# Altium schematic symbol library SamacSys.SchLib: 29 symbols
Pins are listed as number, name and electrical type; pins without a type are passive.

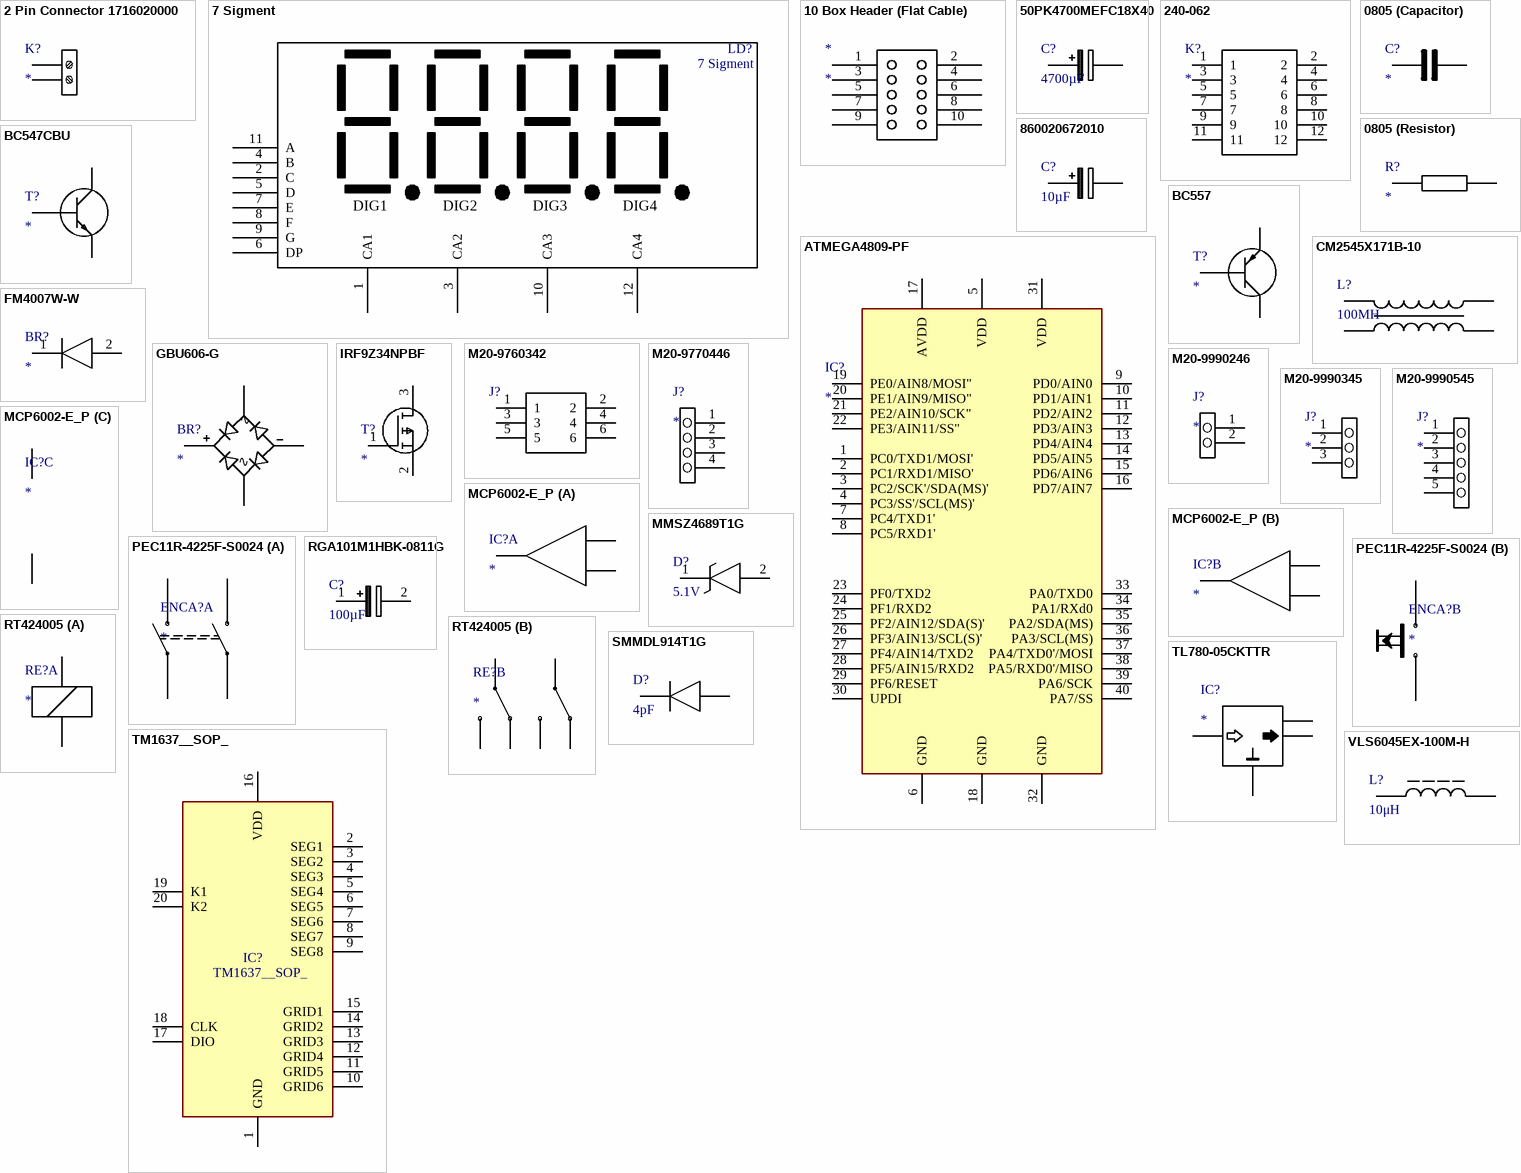
[diagram p0: symbols 2 Pin Connector 1716020000 to VLS6045EX-100M-H]

## 2 Pin Connector 1716020000
designator K?
Connector; Manufacturer_Name: Weidmuller; Manufacturer_Part_Number: 1716020000; Datasheet Link: https://catalog.weidmueller.com/catalog/Start.do?ObjectID=1716020000&_ga=2.21797499.1716783809.1613378202-511725545.1613378202
footprint 1716020000
pins: 1, 2

## 7 Sigment
designator LD?
footprint 7-Sigment
pins: 1 CA1, 2 C, 3 CA2, 4 B, 5 D, 6 DP, 7 E, 8 F, 9 G, 10 CA3, 11 A, 12 CA4
text: DIG1; DIG2; DIG3; DIG4

## 10 Box Header (Flat Cable)
designator *
footprint 10BoxHeader
pins: 1, 2, 3, 4, 5, 6, 7, 8, 9, 10

## 50PK4700MEFC18X40
designator C?, comment 4700µF
Capacitor Polarised; Manufacturer_Name: Rubycon; Manufacturer_Part_Number: 50PK4700MEFC18X40; Datasheet Link: https://componentsearchengine.com//50PK4700MEFC18X40.pdf; Height: 41.5mm; Mouser2 Part Number: 232-50PK4700MEFC18X4; Mouser2 Price/Stock: https://www.mouser.com/Search/Refine.aspx?Keyword=232-50PK4700MEFC18X4
footprint CAPPRD750W80D1850H4150
pins: 1 +, 2 -

## 240-062
designator K?
Connector 12-PIN; Manufacturer_Name: Digilent; Manufacturer_Part_Number: 240-062; Description: Headers & Wire Housings 2x6 Pin Header; Datasheet Link: https://digilent.com/shop/2x6-pin-header-5-pack/; Height: 9.09mm
footprint HDRV12W64P254_2X6_1524X508X909P
pins: 1, 2, 3, 4, 5, 6, 7, 8, 9, 10, 11, 12

## 0805 (Capacitor)
designator C?
Capacitor; Manufacturer_Name: Kemet; Manufacturer_Part_Number: C0805C391G3GACTU; Datasheet Link: https://content.kemet.com/datasheets/KEM_C1003_C0G_SMD.pdf; Height: 1.1mm
footprint C0805
pins: 1 +, 2 -

## 0805 (Resistor)
designator R?
Resistor; Manufacturer_Name: Kemet; Manufacturer_Part_Number: C0805C391G3GACTU; Datasheet Link: https://content.kemet.com/datasheets/KEM_C1003_C0G_SMD.pdf; Height: 1.1mm
footprint C0805
pins: 1, 2

## 860020672010
designator C?, comment 10µF
Capacitor Polarised; Manufacturer_Name: Wurth Elektronik; Manufacturer_Part_Number: 860020672010; Datasheet Link: https://componentsearchengine.com//860020672010.pdf; Height: 12.5mm; Mouser2 Part Number: 710-860020672010; Mouser2 Price/Stock: https://www.mouser.com/Search/Refine.aspx?Keyword=710-860020672010
footprint CAPPRD200W52D500H1250
pins: 1 +, 2 -

## ATMEGA4809-PF
designator IC?
Integrated Circuit; Manufacturer_Name: Microchip; Manufacturer_Part_Number: ATMEGA4809-PF; Datasheet Link: https://componentsearchengine.com//ATMEGA4809-PF.pdf; Height: 6.35mm; Mouser2 Part Number: 556-ATMEGA4809-PF; Mouser2 Price/Stock: https://www.mouser.com/Search/Refine.aspx?Keyword=556-ATMEGA4809-PF
footprint DIP1543W58P254L5175H635Q40N
pins: 1 PC0/TXD1/MOSI', 2 PC1/RXD1/MISO', 3 PC2/SCK'/SDA(MS)', 4 PC3/SS'/SCL(MS)', 5 VDD, 6 GND, 7 PC4/TXD1', 8 PC5/RXD1', 9 PD0/AIN0, 10 PD1/AIN1, 11 PD2/AIN2, 12 PD3/AIN3, 13 PD4/AIN4, 14 PD5/AIN5, 15 PD6/AIN6, 16 PD7/AIN7, 17 AVDD, 18 GND, 19 PE0/AIN8/MOSI", 20 PE1/AIN9/MISO", 21 PE2/AIN10/SCK", 22 PE3/AIN11/SS", 23 PF0/TXD2, 24 PF1/RXD2, 25 PF2/AIN12/SDA(S)', 26 PF3/AIN13/SCL(S)', 27 PF4/AIN14/TXD2, 28 PF5/AIN15/RXD2, 29 PF6/RESET, 30 UPDI, 31 VDD, 32 GND, 33 PA0/TXD0, 34 PA1/RXd0, 35 PA2/SDA(MS), 36 PA3/SCL(MS), 37 PA4/TXD0'/MOSI, 38 PA5/RXD0'/MISO, 39 PA6/SCK, 40 PA7/SS

## BC547CBU
designator T?
Transistor BJT NPN; Manufacturer_Name: ON Semiconductor; Manufacturer_Part_Number: BC547CBU; Datasheet Link: https://www.onsemi.com/pdf/datasheet/bc550-d.pdf; Height: 5.33mm
footprint BC547CBU
pins: 1 C, 2 B, 3 E

## BC557
designator T?
Transistor BJT NPN; Manufacturer_Name: ON Semiconductor; Manufacturer_Part_Number: BC547CBU; Datasheet Link: https://www.onsemi.com/pdf/datasheet/bc550-d.pdf; Height: 5.33mm
footprint BC547CBU
pins: 1 C, 2 B, 3 E

## CM2545X171B-10
designator L?, comment 100MH
Transformer; Manufacturer_Name: Laird Technologies; Manufacturer_Part_Number: CM2545X171B-10; Datasheet Link: https://datasheet.datasheetarchive.com/originals/dk/DKDS-7/122753.pdf; Height: 9.5mm
footprint CM2545X171B10
pins: 1 PRI+, 2 SEC+, 3 SEC-, 4 PRI-

## FM4007W-W
designator BR?
Bridge Rectifier; Manufacturer_Name: Rectron; Manufacturer_Part_Number: FM4007W-W; Datasheet Link: https://componentsearchengine.com//FM4007W-W.pdf; Height: 2.31mm; Mouser2 Part Number: 583-FM4007W-W; Mouser2 Price/Stock: https://www.mouser.com/Search/Refine.aspx?Keyword=583-FM4007W-W
footprint DIOM5025X231N
pins: 1 K, 2 A

## GBU606-G
designator BR?
Bridge Rectifier; Manufacturer_Name: Comchip Technology; Manufacturer_Part_Number: GBU606-G; Datasheet Link: https://www.comchiptech.com/product.php?id=2217; Height: 20.95mm
footprint GBU606G
pins: 1 +, 2 ~_1, 3 ~_2, 4 -
text: ∿

## IRF9Z34NPBF
designator T?
MOSFET (P-Channel); Manufacturer_Name: Infineon; Manufacturer_Part_Number: IRF9Z34NPBF; Datasheet Link: https://componentsearchengine.com//IRF9Z34NPBF.pdf; Height: 4.69mm; Mouser2 Part Number: 942-IRF9Z34NPBF; Mouser2 Price/Stock: https://www.mouser.com/Search/Refine.aspx?Keyword=942-IRF9Z34NPBF
footprint TO254P469X1042X1967-3P
pins: 1 G, 2 S, 3 D

## M20-9760342
designator J?
Connector 6-PIN; Manufacturer_Name: Harwin; Manufacturer_Part_Number: M20-9760342; Datasheet Link: https://cdn.harwin.com/pdfs/M20-976.pdf; Height: 8.3mm
footprint HDRV6W66P254_2X3_762X508X830P
pins: 1, 2, 3, 4, 5, 6

## M20-9770446
designator J?
Connector 4-PIN; Manufacturer_Name: Harwin; Manufacturer_Part_Number: M20-9770446; Datasheet Link: https://componentsearchengine.com//M20-9770446.pdf; Height: 8.34mm; Mouser2 Part Number: 855-M20-9770446; Mouser2 Price/Stock: https://www.mouser.com/Search/Refine.aspx?Keyword=855-M20-9770446
footprint HDRV4W64P0X254_1X4_1016X254X834P
pins: 1, 2, 3, 4

## M20-9990246
designator J?
Connector 2-PIN; Manufacturer_Name: Harwin; Manufacturer_Part_Number: M20-9990246; Datasheet Link: https://componentsearchengine.com//M20-9990246.pdf; Height: 8.74mm; Mouser2 Part Number: 855-M20-9990246; Mouser2 Price/Stock: https://www.mouser.com/Search/Refine.aspx?Keyword=855-M20-9990246
footprint HDRV2W66P0X254_1X2_508X254X874P
pins: 1, 2

## M20-9990345
designator J?
Connector 3-PIN; Manufacturer_Name: Harwin; Manufacturer_Part_Number: M20-9990345; Datasheet Link: https://componentsearchengine.com//M20-9990345.pdf; Height: 8.64mm; Mouser2 Part Number: 855-M20-9990345; Mouser2 Price/Stock: https://www.mouser.com/Search/Refine.aspx?Keyword=855-M20-9990345
footprint HDRV3W64P0X254_1X3_762X254X864P
pins: 1, 2, 3

## M20-9990545
designator J?
Connector 5-PIN; Manufacturer_Name: Harwin; Manufacturer_Part_Number: M20-9990545; Datasheet Link: https://componentsearchengine.com//M20-9990545.pdf; Height: 8.64mm; Mouser2 Part Number: 855-M20-9990545; Mouser2 Price/Stock: https://www.mouser.com/Search/Refine.aspx?Keyword=855-M20-9990545
footprint HDRV5W64P0X254_1X5_1270X254X864P
pins: 1, 2, 3, 4, 5

## MCP6002-E_P
designator IC?
Integrated Circuit; Manufacturer_Name: Microchip; Manufacturer_Part_Number: MCP6002-E/P; Datasheet Link: https://componentsearchengine.com//MCP6002-E_P.pdf; Height: 5.334mm; Mouser2 Part Number: 579-MCP6002-E/P; Mouser2 Price/Stock: https://www.mouser.com/Search/Refine.aspx?Keyword=579-MCP6002-E%2FP
footprint DIP781W56P254L950H533Q8N
part A pins: 1 VOUTA, 2 VINA-, 3 VINA+
part B pins: 5 VINB+, 6 VINB-, 7 VOUTB
part C pins: 4 VSS, 8 VDD

## MMSZ4689T1G
designator D?, comment 5.1V
Zener Diode; Manufacturer_Name: ON Semiconductor; Manufacturer_Part_Number: MMSZ4689T1G; Datasheet Link: https://componentsearchengine.com//MMSZ4689T1G.pdf; Height: 1.35mm; Mouser2 Part Number: 863-MMSZ4689T1G; Mouser2 Price/Stock: https://www.mouser.com/Search/Refine.aspx?Keyword=863-MMSZ4689T1G
footprint SOD3716X135N
pins: 1 K, 2 A

## PEC11R-4225F-S0024
designator ENCA?
Encoder; Manufacturer_Name: Bourns; Manufacturer_Part_Number: PEC11R-4225F-S0024; Datasheet Link: https://componentsearchengine.com//PEC11R-4225F-S0024.pdf; Mouser2 Part Number: 652-PEC11R-4225F-S24; Mouser2 Price/Stock: https://www.mouser.com/Search/Refine.aspx?Keyword=652-PEC11R-4225F-S24
footprint PEC12R-4XXXF-SXXXX_1
part A pins: 1, 2, 3, 4
part B pins: 5, 6

## RGA101M1HBK-0811G
designator C?, comment 100µF
Capacitor Polarised; Manufacturer_Name: Lelon; Manufacturer_Part_Number: RGA101M1HBK-0811G; Datasheet Link: https://www.arrow.com/en/products/rga101m1hbk-0811g/lelon-electronics; Height: 13mm
footprint CAPPRD350W60D825H1300
pins: 1 +, 2 -

## RT424005
designator RE?
Relay or Contactor; Manufacturer_Name: TE Connectivity; Manufacturer_Part_Number: RT424005; Datasheet Link: https://componentsearchengine.com//RT424005.pdf; Mouser2 Part Number: 655-RT424005; Mouser2 Price/Stock: https://www.mouser.com/Search/Refine.aspx?Keyword=655-RT424005
footprint RT42
part A pins: 1 A1_COIL, 8 A2_COIL
part B pins: 2 12_NC, 3 11_COM, 4 14_NO, 5 24_NO, 6 21_COM, 7 22_NC

## SMMDL914T1G
designator D?, comment 4pF
Diode; Manufacturer_Name: ON Semiconductor; Manufacturer_Part_Number: SMMDL914T1G; Datasheet Link: https://componentsearchengine.com//SMMDL914T1G.pdf; Height: 1.1mm; Mouser2 Part Number: 863-SMMDL914T1G; Mouser2 Price/Stock: https://www.mouser.com/Search/Refine.aspx?Keyword=863-SMMDL914T1G
footprint SOD2512X110N
pins: 1 K, 2 A

## TL780-05CKTTR
designator IC?
Integrated Circuit; Manufacturer_Name: Texas Instruments; Manufacturer_Part_Number: TL780-05CKTTR; Datasheet Link: http://www.ti.com/general/docs/suppproductinfo.tsp?distId=26&gotoUrl=http%3A%2F%2Fwww.ti.com%2Flit%2Fgpn%2Ftl780; Height: 5.08mm
footprint TL78005CKTTR
pins: 1 INPUT, 2 COMMON_1, 3 OUTPUT, 4 COMMON_2

## TM1637__SOP_
designator IC?
Integrated Circuit; Manufacturer_Name: TITAN MICRO ELECTRONICS; Manufacturer_Part_Number: TM1637 (SOP); Datasheet Link: https://www.mcielectronics.cl/website_MCI/static/documents/Datasheet_TM1637.pdf; Height: 2.8mm
footprint tm1637
pins: 1 GND, 2 SEG1, 3 SEG2, 4 SEG3, 5 SEG4, 6 SEG5, 7 SEG6, 8 SEG7, 9 SEG8, 10 GRID6, 11 GRID5, 12 GRID4, 13 GRID3, 14 GRID2, 15 GRID1, 16 VDD, 17 DIO, 18 CLK, 19 K1, 20 K2

## VLS6045EX-100M-H
designator L?, comment 10μH
Inductor; Manufacturer_Name: TDK; Manufacturer_Part_Number: VLS6045EX-100M-H; Datasheet Link: https://componentsearchengine.com//VLS6045EX-100M-H.pdf; Mouser2 Part Number: 810-VLS6045EX-100M-H; Mouser2 Price/Stock: https://www.mouser.com/Search/Refine.aspx?Keyword=810-VLS6045EX-100M-H
footprint VLS56045
pins: 1, 2